# EAGLE library part SD_BOARD (library SdBoard)
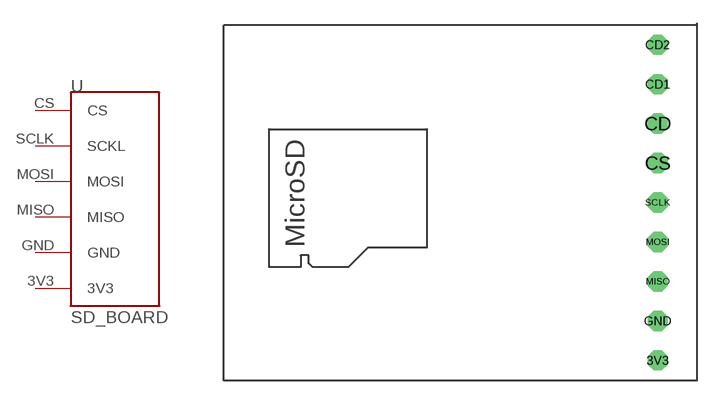
[diagram p0: symbol with the pads of SD_BOARD; footprint SD_BOARD]

Designator prefix -

## SD_BOARD  [SD_BOARD]
3V3  3V3
CS  CS
GND  GND
MISO  MISO
MOSI  MOSI
SCLK  SCKL

## Footprint SD_BOARD (pad centres in mm)
drill 0.8 octagon: 3V3 27.94,-21.56; CD 27.94,-6.32; CD1 27.94,-3.78; CD2 27.94,-1.24; CS 27.94,-8.86; GND 27.94,-19.02; MISO 27.94,-16.48; MOSI 27.94,-13.94; SCLK 27.94,-11.4